# Altium footprint library 51常用（2）.PcbLib: 45 footprints (part 2 of 3)
Each footprint in its own frame and in the unit in brackets; x right, y up, seen from the top. Pads: shape width x height; smd on the part's side, far side on the other; paste and mask are expansions set on the pad; w line width, h text height; cw(c..) or ccw(c..) is an arc to the next point about the centre after c.
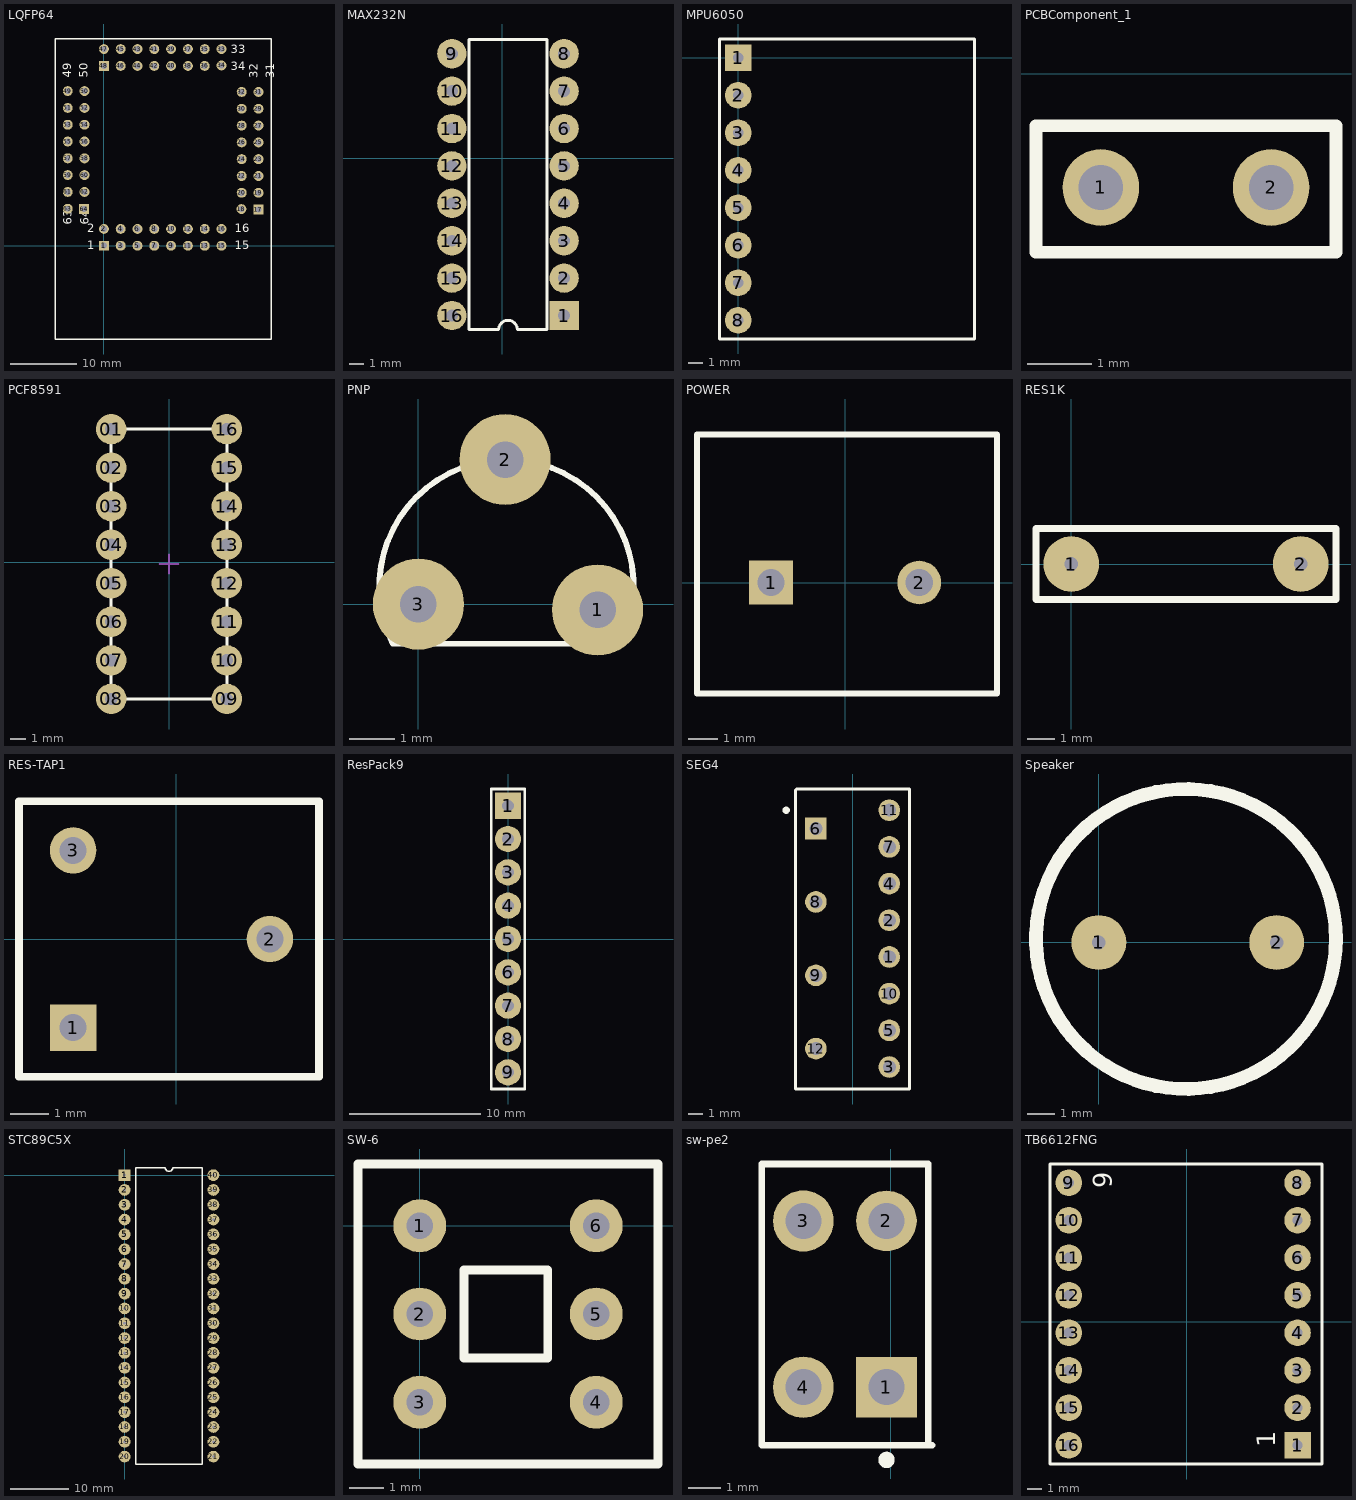
[diagram p1: the footprints below, top view; thin cyan lines are the x and y axes]

## LQFP64 [mm]
pads (64):
  rect 1.5x1.5 hole 0.9: 1(0,0) 17(23.368,5.461) 48(0,27.178) 64(-3,5.54)
  round 1.5 hole 0.9: 2(0,2.54) 3(2.54,0) 4(2.54,2.54) 5(5.08,0) 6(5.08,2.54) 7(7.62,0) 8(7.62,2.54) 9(10.16,0) 10(10.16,2.54) 11(12.7,0) 12(12.7,2.54) 13(15.24,0) 14(15.24,2.54) 15(17.78,0) 16(17.78,2.54) 18(20.78,5.54) 19(23.368,8.001) 20(20.828,8.001) 21(23.368,10.541) 22(20.828,10.541) 23(23.368,13.081) 24(20.828,13.081) 25(23.368,15.621) 26(20.828,15.621) 27(23.368,18.161) 28(20.828,18.161) 29(23.368,20.701) 30(20.828,20.701) 31(23.368,23.241) 32(20.828,23.241) 33(17.78,29.718) 34(17.78,27.248) 35(15.24,29.718) 36(15.24,27.178) 37(12.7,29.718) 38(12.7,27.178) 39(10.16,29.718) 40(10.16,27.178) 41(7.62,29.718) 42(7.62,27.178) 43(5.08,29.718) 44(5.08,27.178) 45(2.54,29.718) 46(2.54,27.178) 47(0,29.718) 49(-5.461,23.368) 50(-2.921,23.368) 51(-5.461,20.828) 52(-2.921,20.828) 53(-5.461,18.288) 54(-2.921,18.288) 55(-5.461,15.748) 56(-2.921,15.748) 57(-5.461,13.208) 58(-2.921,13.208) 59(-5.461,10.668) 60(-2.921,10.668) 61(-5.461,8.128) 62(-2.921,8.128) 63(-5.461,5.588)
Top Overlay:
  lines w0.2: -7.366,-14.097 -7.366,31.242 25.273,31.242 25.273,-14.097 -7.366,-14.097
  text "2" at -2.54,2.032 h1.27
  text "1" at -2.54,-0.508 h1.27
  text "15" at 19.812,-0.508 h1.27
  text "16" at 19.812,2.032 h1.27
  text "49" at -4.953,25.4 h1.27
  text "50" at -2.413,25.4 h1.27
  text "64" at -2.286,3.175 h1.27
  text "63" at -4.826,3.175 h1.27
  text "31" at 25.781,25.273 h1.27
  text "32" at 23.241,25.273 h1.27
  text "34" at 19.177,26.543 h1.27
  text "33" at 19.177,29.083 h1.27

## MAX232N [mm]
pads (16):
  rect 2x2 hole 0.8: 1(4.191,-10.668)
  round 2 hole 0.8: 2(4.191,-8.128) 3(4.191,-5.588) 4(4.191,-3.048) 5(4.191,-0.508) 6(4.191,2.032) 7(4.191,4.572) 8(4.191,7.112) 9(-3.429,7.112) 10(-3.429,4.572) 11(-3.429,2.032) 12(-3.429,-0.508) 13(-3.429,-3.048) 14(-3.429,-5.588) 15(-3.429,-8.128) 16(-3.429,-10.668)
Top Overlay:
  lines w0.2: -2.269,-11.628 -2.269,8.072 3.031,8.072 3.031,-11.628 1.016,-11.628 ccw(c0.381,-11.628) -0.254,-11.628 -2.269,-11.628

## MPU6050 [mm]
pads (8):
  rect 1.8x1.8 hole 0.68: 1(0,0)
  round 1.8 hole 0.68: 2(0,-2.54) 3(0,-5.08) 4(0,-7.62) 5(0,-10.16) 6(0,-12.7) 7(0,-15.24) 8(0,-17.78)
Top Overlay:
  lines w0.2: -1.27,-19.05 16.002,-19.05 16.002,1.27 -1.27,1.27 -1.27,-19.05

## PCBComponent_1 [mm]
pads (2):
  round 1.2 hole 0.7: 1(-5.461,-1.778) 2(-2.794,-1.778)
Top Overlay:
  lines w0.2: -6.477,-2.794 -1.778,-2.794 -1.778,-0.81 -6.477,-0.81 -6.477,-2.794

## PCF8591 [mm]
pads (16):
  round 2 hole 0.8: 01(-3.81,8.763) 02(-3.81,6.223) 03(-3.81,3.683) 04(-3.81,1.143) 05(-3.81,-1.397) 06(-3.81,-3.937) 07(-3.81,-6.477) 08(-3.81,-9.017) 09(3.81,-9.017) 10(3.81,-6.477) 11(3.81,-3.937) 12(3.81,-1.397) 13(3.81,1.143) 14(3.81,3.683) 15(3.81,6.223) 16(3.81,8.763)
Top Overlay:
  lines w0.2: 3.683,-9.017 -3.81,-9.017 -3.81,8.763 3.81,8.763 3.81,-9.017
Mechanical 15:
  lines w0.127: -0.635,-0.127 0.635,-0.127 ; 0,-0.762 0,0.508

## PNP [mm]
pads (3):
  round 2 hole 0.8: 1(3.937,-0.127) 2(1.905,3.175) 3(0,0)
Top Overlay:
  lines w0.127: -0.562,-0.869 cw(c1.937,0.381) 4.436,-0.869 -0.562,-0.869

## POWER [mm]
pads (2):
  rect 1.5x1.5 hole 0.935: 1(-2.54,0)
  round 1.5 hole 0.935: 2(2.54,0)
Top Overlay:
  lines w0.2: -5.08,-3.81 -5.08,5.08 5.207,5.08 5.207,-3.81 -5.08,-3.81

## RES1K [mm]
pads (2):
  round 2 hole 0.5: 1(0,0) 2(8.255,0)
Top Overlay:
  lines w0.2: -1.27,1.016 -1.27,-1.27 9.525,-1.27 9.525,1.016
  lines w0.254: -1.27,-1.27 9.525,-1.27 9.525,1.27 -1.27,1.27 -1.27,-1.27

## RES-TAP1 [mm]
pads (3):
  rect 1.2x1.2 hole 0.7: 1(-2.667,-2.286)
  round 1.2 hole 0.7: 2(2.413,0) 3(-2.667,2.286)
Top Overlay:
  lines w0.2: -4.064,-3.556 3.683,-3.556 3.683,3.556 -2.667,3.556 -4.064,3.556 -4.064,-3.556

## ResPack9 [mm]
pads (9):
  rect 2x2 hole 0.9: 1(0,10.16)
  round 2 hole 0.9: 2(0,7.62) 3(0,5.08) 4(0,2.54) 5(0,0) 6(0,-2.54) 7(0,-5.08) 8(0,-7.62) 9(0,-10.16)
Top Overlay:
  lines w0.2: -1.27,-11.43 1.27,-11.43 1.27,11.43 -1.27,11.43 -1.27,-11.43

## SEG4 [mm]
pads (12):
  round 1.5 hole 0.9: 1(2.54,-21.209) 2(2.54,-18.669) 3(2.54,-28.829) 4(2.54,-16.129) 5(2.54,-26.289) 7(2.54,-13.589) 8(-2.54,-17.399) 9(-2.54,-22.479) 10(2.54,-23.749) 11(2.54,-11.049) 12(-2.54,-27.559)
  rect 1.5x1.5 hole 0.9: 6(-2.54,-12.319)
Top Overlay:
  circle w0.25: c-4.6,-11.049 r0.125
  lines w0.2: -3.95,-30.353 -3.95,-9.665 -3.864,-9.579 3.95,-9.579 3.95,-30.353 -3.95,-30.353
Bottom Solder:
  lines w0.381: -0.889,-28.448 -0.889,-27.813 ; -0.889,-27.051 -0.889,-26.416 ; -0.889,-23.368 -0.889,-22.733 ; -0.889,-21.971 -0.889,-21.336 ; -0.889,-18.288 -0.889,-17.653 ; -0.889,-16.891 -0.889,-16.256 ; -0.889,-13.208 -0.889,-12.573 ; -0.889,-11.811 -0.889,-11.176 ; -0.508,-28.829 0.508,-28.829 ; -0.508,-26.035 0.508,-26.035 ; -0.508,-23.749 0.508,-23.749 ; -0.508,-20.955 0.508,-20.955 ; -0.508,-18.669 0.508,-18.669 ; -0.508,-15.875 0.508,-15.875 ; -0.508,-13.589 0.508,-13.589 ; -0.508,-10.795 0.508,-10.795 ; 0.889,-28.448 0.889,-27.813 ; 0.889,-27.051 0.889,-26.416 ; 0.889,-23.368 0.889,-22.733 ; 0.889,-21.971 0.889,-21.336 ; 0.889,-18.288 0.889,-17.653 ; 0.889,-16.891 0.889,-16.256 ; 0.889,-13.208 0.889,-12.573 ; 0.889,-11.811 0.889,-11.176 ; -0.508,-27.432 0.508,-27.432 -0.508,-27.432 ; -0.508,-22.352 0.508,-22.352 -0.508,-22.352 ; -0.508,-17.272 0.508,-17.272 -0.508,-17.272 ; -0.508,-12.192 0.508,-12.192 -0.508,-12.192
Mechanical 13:
  lines w0.1: -3.95,-30.353 -3.95,-9.579 3.95,-9.579 3.95,-30.353
3D body: height 6.34, standoff 0, extent -3.95,-30.426 3.95,-9.652

## Speaker [mm] "黑色，二层，顶视图为圆环，"
pads (2):
  round 2 hole 0.5: 1(0,0) 2(6.477,0)
Top Overlay:
  circle w0.5: c3.174,0.127 r5.462

## STC89C5X [mil]
pads (40):
  rect 80x78.74 hole 20: 1(0,0)
  oval 80x78.74 hole 20: 2(0,-100) 3(0,-200) 4(0,-300) 5(0,-400) 6(0,-500) 7(0,-600) 8(0,-700) 9(0,-800) 10(0,-900) 11(0,-1000) 12(0,-1100) 13(0,-1200) 14(0,-1300) 15(0,-1400) 16(0,-1500) 17(0,-1600) 18(0,-1700) 19(0,-1800) 20(0,-1900) 21(600,-1900) 22(600,-1800) 23(600,-1700) 24(600,-1600) 25(600,-1500) 26(600,-1400) 27(600,-1300) 28(600,-1200) 29(600,-1100) 30(600,-1000) 31(600,-900) 32(600,-800) 33(600,-700) 34(600,-600) 35(600,-500) 36(600,-400) 37(600,-300) 38(600,-200) 39(600,-100) 40(600,0)
Top Overlay:
  lines w10: 75,-1950 525,-1950 525,50 325,50 cw(c300,50) 275,50 75,50 75,-1950

## SW-6 [mil]
height 501.97
pads (6):
  round 60 hole 30: 1(0,0) 2(0,-100) 3(0,-200) 4(200,-200) 5(200,-100) 6(200,0)
Top Overlay:
  lines w10: -70,-270 270,-270 270,70 -70,70 -70,-270 ; 50,-150 50,-50 145,-50 145,-150 50,-150

## sw-pe2 [mm]
pads (4):
  rect 1.85x1.85 hole 1.1: 1(-0.127,-12.065)
  round 1.85 hole 1.1: 2(-0.127,-6.985)
  oval 1.85x1.875 hole 1.1: 3(-2.667,-6.985) 4(-2.667,-12.065)
Top Overlay:
  circle w0.25: c-0.126,-14.286 r0.125
  lines w0.2: 1.143,-13.805 1.143,-5.245 -3.937,-5.245 -3.937,-13.843 1.27,-13.843

## TB6612FNG [mm]
pads (16):
  rect 1.8x1.8 hole 0.7: 1(7.493,-8.382)
  round 1.8 hole 0.7: 2(7.493,-5.842) 3(7.493,-3.302) 4(7.493,-0.762) 5(7.493,1.778) 6(7.493,4.318) 7(7.493,6.858) 8(7.493,9.398) 9(-8.001,9.398) 10(-8.001,6.858) 11(-8.001,4.318) 12(-8.001,1.778) 13(-8.001,-0.762) 14(-8.001,-3.302) 15(-8.001,-5.842) 16(-8.001,-8.382)
Top Overlay:
  lines w0.2: -9.271,-9.652 9.144,-9.652 9.144,10.668 -9.271,10.668 -9.271,-9.652
  text "1" at 5.969,-8.509 h1.27
  text "9" at -5.08,9.017 h1.27